# Altium footprint library ActiveWave MasterLib.PcbLib: 41 footprints (part 2 of 3)
Each footprint in its own frame and in the unit in brackets; x right, y up, seen from the top. Pads: shape width x height; smd on the part's side, far side on the other; paste and mask are expansions set on the pad; w line width, h text height; cw(c..) or ccw(c..) is an arc to the next point about the centre after c.
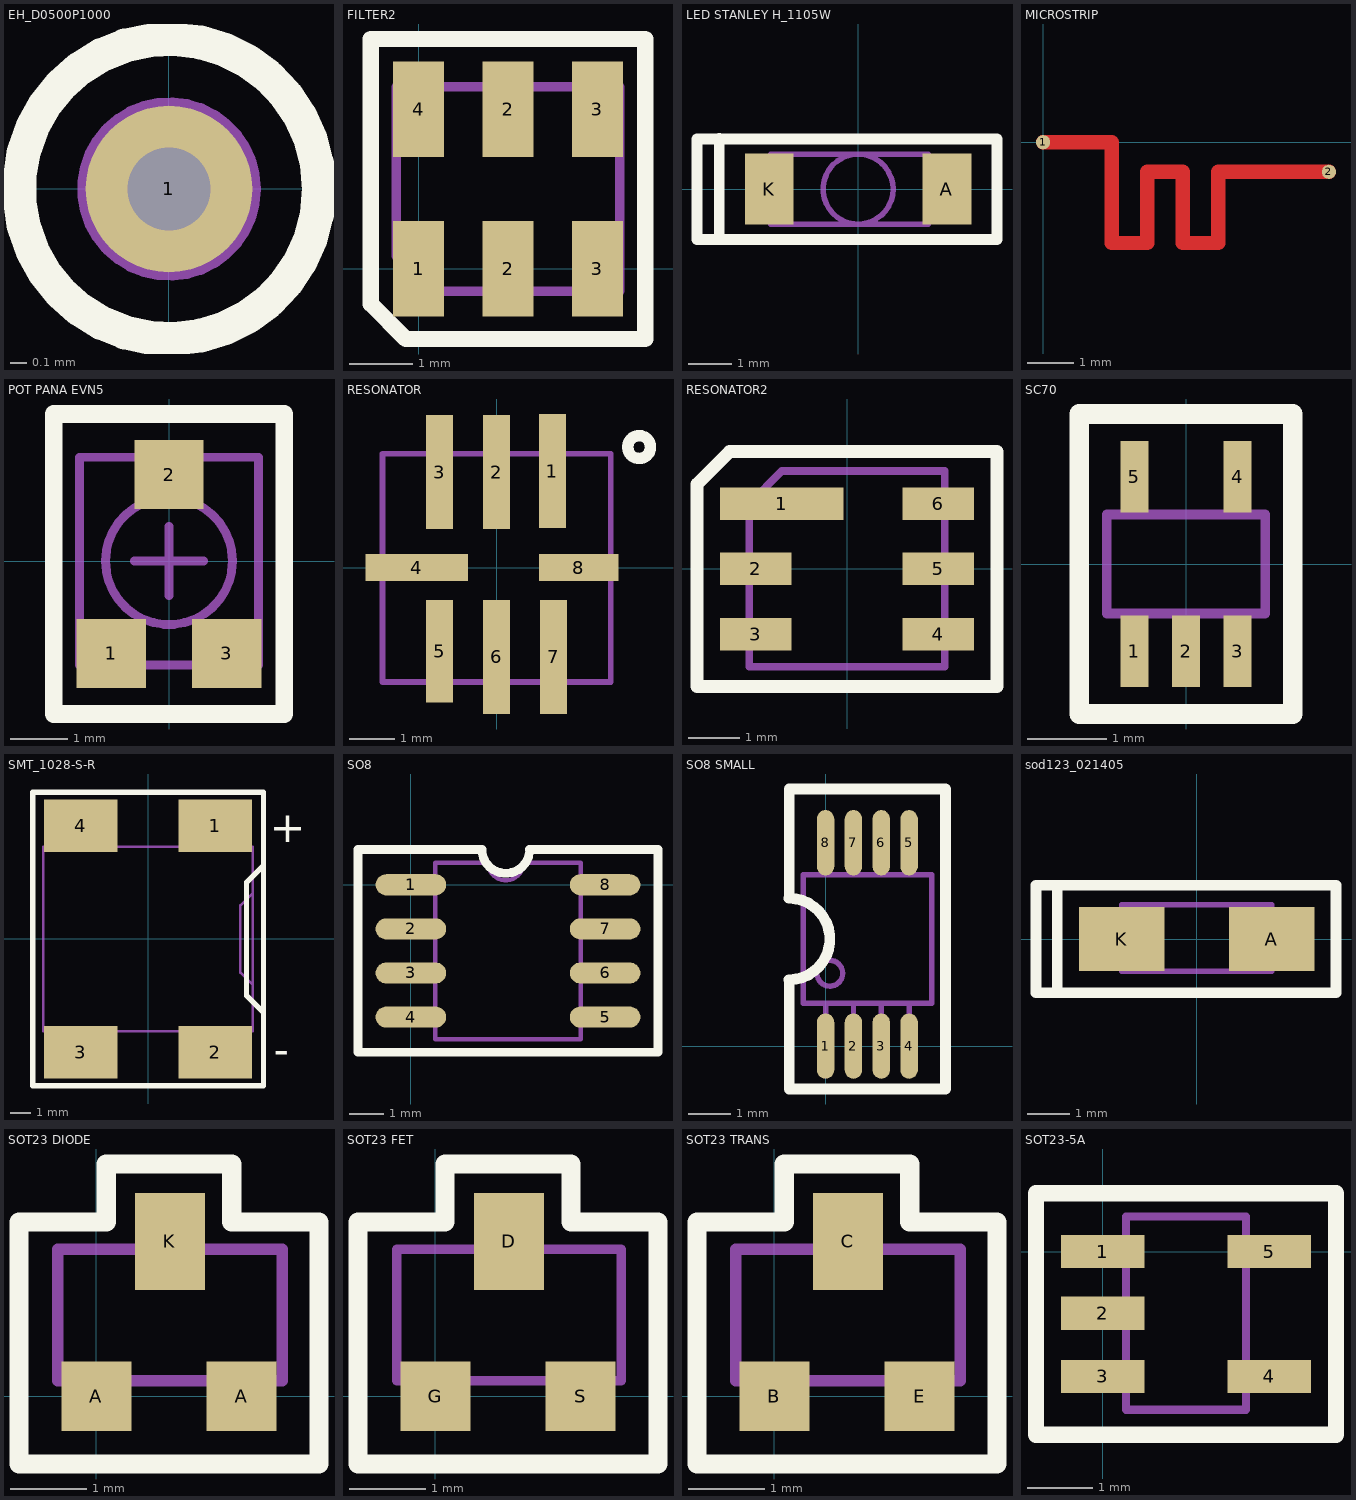
[diagram p1: the footprints below, top view; thin cyan lines are the x and y axes]

## EH_D0500P1000 [mm]
pads (1):
  round 1 hole 0.5: 1(0,0)
Top Overlay:
  circle w0.203: c0,0 r0.9
Mechanical 1:
  circle w0.102: c0,0 r0.5
Mechanical 8:
  text ".Designator" at -0.381,0.889 h0.5

## FILTER2 [mm]
pads (6):
  rect 0.8x1.5 smd: 1(0,0) 2(1.4,0) 2(1.4,2.5) 3(2.8,0) 3(2.8,2.5) 4(0,2.5)
Top Overlay:
  lines w0.254: -0.75,-0.55 -0.75,1.25 -0.75,3.6 3,3.6 3.55,3.6 3.55,1.25 3.55,-1.1 -0.2,-1.1 -0.75,-0.55
Mechanical 1:
  lines w0.152: 1.4,2.85 -0.35,2.85 ; -0.35,2.85 3.15,2.85 3.15,-0.35 0.2,-0.35 -0.35,0.2 -0.35,2.85
Mechanical 8:
  text ".Designator" at -0.254,1.143 h0.5

## LED STANLEY H_1105W [mil]
pads (2):
  rect 44x64 smd: A(80,0) K(-80,0)
Top Overlay:
  lines w9.84: -125,-45 -125,45.55 ; -145,-45.28 -145,45.28 -131.89,45.28 -114.17,45.28 0,45.28 114.17,45.28 125,45.28 125,-45.28 114.17,-45.28 0,-45.28 -114.17,-45.28 -131.89,-45.28 -145,-45.28
Mechanical 1:
  circle w4.92: c0,0 r31.5
  lines w4.92: 0,31.5 62.99,31.5 ; -62.99,-31.5 -78.74,-31.5 -78.74,31.5 -62.99,31.5 ; -62.99,-31.5 -62.99,31.5 ; -62.99,-31.5 62.99,-31.5 62.99,31.5 ; -62.99,31.5 62.99,31.5
Mechanical 8:
  text ".Designator" at -80,45 h19.68

## MICROSTRIP [mil]
pads (2):
  round 12 smd: 1(0,0) 2(241.41,-25)
Top Layer:
  lines w12: 0,0 57.94,0 57.94,-85 87.94,-85 87.94,-25 117.94,-25 117.94,-30 117.94,-85 147.94,-85 147.94,-25 241.19,-25 241.41,-25
Mechanical 8:
  text ".Designator" at 40,-50 h19.68

## POT PANA EVN5 [mm]
pads (3):
  rect 1.2x1.2 smd: 1(-1,-1.6) 2(0,1.5) 3(1,-1.6)
Top Overlay:
  lines w0.305: -2,-2.65 0,-2.65 2,-2.65 2,2.55 0,2.55 -2,2.55 -2,-2.65
Mechanical 1:
  circle w0.152: c0,0 r1.1
  lines w0.152: -0.6,0 0,0 ; 0,-0.6 0,0 ; 0,0.6 0,0 ; 0,1.8 -1.55,1.8 ; 0.6,0 0,0 ; -1.55,1.8 -1.55,-1.8 1.55,-1.8 1.55,1.8 -1.55,1.8
Mechanical 8:
  text ".Designator" at -1.651,-0.127 h0.5

## RESONATOR [mm]
pads (8):
  rect 0.6x2.54 smd: 1(1.245,2.159) 2(0,2.134) 3(-1.27,2.134) 6(0,-1.983) 7(1.27,-1.983)
  rect 2.286x0.6 smd: 4(-1.776,0.008)
  rect 0.6x2.286 smd: 5(-1.27,-1.856)
  rect 1.778x0.6 smd: 8(1.831,0.008)
Top Overlay:
  circle w0.254: c3.175,2.692 r0.254
Mechanical 1:
  lines w0.125: -2.54,-2.54 -2.54,2.54 2.54,2.54 2.54,0 2.54,-2.54 -2.54,-2.54
Mechanical 8:
  text ".Designator" at -1.778,1.651 h0.5

## RESONATOR2 [mil]
pads (6):
  rect 95x25 smd: 1(-50,50)
  rect 55x25 smd: 2(-70,0) 3(-70,-50) 4(70,-50) 5(70,0) 6(70,50)
Top Overlay:
  lines w10: -115,-90 -115,-50 -115,65 -90,90 0,90 115,90 115,50 115,-90 0,-90 -115,-90
Mechanical 1:
  lines w6: -75,-75 -75,50 -50,75 0,75 75,75 75,-75 -75,-75
Mechanical 8:
  text ".Designator" at -70,-10 h19.68

## SC70 [mm]
pads (5):
  rect 0.35x0.9 smd: 1(-0.65,-1.1) 2(0,-1.1) 3(0.65,-1.1) 4(0.65,1.1) 5(-0.65,1.1)
Top Overlay:
  lines w0.25: -1.346,-1.892 -1.346,0 -1.346,1.892 0,1.892 1.346,1.892 1.346,0 1.346,-1.892 0,-1.892 -1.346,-1.892
Mechanical 1:
  lines w0.125: -0.65,-1.1 -0.65,-0.625 ; -0.65,0.625 -0.65,1.1 ; 0,-1.1 0,-0.625 ; 0,0.625 -1,0.625 ; 0.65,-1.1 0.65,-0.625 ; 0.65,0.625 0.65,1.1 ; 1,0 1,-0.625 ; -1,0.625 1,0.625 1,-0.625 ; -1,0.625 -1,-0.625 1,-0.625
Mechanical 8:
  text ".Designator" at -1.778,1.524 h0.5

## SMT_1028-S-R [mm] "TRANSDUCER"
pads (4):
  rect 3.5x2.5 smd: 1(3.2,5.4) 2(3.2,-5.4) 3(-3.2,-5.4) 4(-3.2,5.4)
Top Overlay:
  lines w0.25: 5.5,-3.5 5.5,3.5 ; 5.5,-3.5 5.5,-7 -5.5,-7 -5.5,7 5.5,7 5.5,3.5 ; 5.5,-3.5 4.7,-2.7 4.7,2.7 5.5,3.5
  text "+" at 5.8,4.6 h1.5
  text "-" at 6,-6 h1.5
Mechanical 1:
  lines w0.125: -3.7,-4.4 -3.7,-5.4 -2.7,-5.4 -2.7,-4.4 ; -3.7,4.4 -3.7,5.4 -2.7,5.4 -2.7,4.4 ; 2.7,-4.4 2.7,-5.4 3.7,-5.4 3.7,-4.4 ; 2.7,4.4 2.7,5.4 3.7,5.4 3.7,4.4 ; 5,-2.2 5,2.2 ; 5,-2.2 5,-4.4 -5,-4.4 -5,4.4 5,4.4 5,2.2 ; 5,-2.2 4.4,-1.6 4.4,1.6 5,2.2
  text "+" at 2.6,2.4 h1.5
  text "-" at 2.5,-3.7 h1.5
Mechanical 8:
  text ".Designator" at -1.905,1.143 h0.5

## SO8 [mil]
pads (8):
  oval 80x24 smd: 1(0,0) 2(0,-50) 3(0,-100) 4(0,-150) 5(220,-150) 6(220,-100) 7(220,-50) 8(220,0)
Top Overlay:
  lines w9.84: 80.46,40 -60,40 -60,-190 280,-190 280,40 134.54,40
  lines w10: 80.46,40 ccw(c107.5,40) 134.54,40
Mechanical 1:
  lines w4.92: 27.5,-155 0,-155 0,-145 27.5,-145 ; 27.5,-105 0,-105 0,-95 27.5,-95 ; 27.5,-55 0,-55 0,-45 27.5,-45 ; 27.5,-5 0,-5 0,5 27.5,5 ; 192.5,-155 220,-155 220,-145 192.5,-145 ; 192.5,-105 220,-105 220,-95 192.5,-95 ; 192.5,-55 220,-55 220,-45 192.5,-45 ; 192.5,-5 220,-5 220,5 192.5,5 ; 27.5,-175 192.5,-175 192.5,25 127.5,25 cw(c107.5,25) 87.5,25 27.5,25 27.5,-175
Mechanical 8:
  text ".Designator" at 40,-30 h19.68

## SO8 SMALL [mil]
pads (8):
  oval 16x60 smd: 1(0,0) 2(25.59,0) 3(51.18,0) 4(76.77,0) 5(76.77,186.85) 6(51.18,186.85) 7(25.59,186.85) 8(0,186.85)
Top Overlay:
  lines w9.84: -33.46,61.02 -33.46,-39.37 1.97,-39.37 110.24,-39.37 110.24,153.54 110.24,236.22 74.8,236.22 -33.46,236.22 -33.46,135.83
  lines w10: -33.46,61.02 ccw(c-33.46,98.43) -33.46,135.83
Mechanical 1:
  circle w4.92: c3.94,66.93 r11.81
  lines w4.92: 0,0 0,39.37 ; 0,157.48 0,196.85 ; 25.59,0 25.59,39.37 ; 25.59,157.48 25.59,196.85 ; 51.18,0 51.18,39.37 ; 51.18,157.48 51.18,196.85 ; 76.77,0 76.77,39.37 ; 76.77,157.48 76.77,196.85 ; 97.44,98.43 97.44,157.48 ; 97.44,157.48 97.44,39.37 -20.67,39.37 -20.67,157.48 97.44,157.48
Mechanical 8:
  text ".Designator" at -10,125 h19.68

## sod123_021405 [mil]
pads (2):
  rect 80x60 smd: A(70,0) K(-70,0)
Top Overlay:
  lines w9.84: -130,-50 -130,50 ; -150,-50 -150,50 40,50 130,50 130,-50 40,-50 -150,-50
Mechanical 1:
  lines w4.92: -40,-30 -40,32 ; -70,-30 -70,32 70,32 70,-30 -70,-30
Mechanical 8:
  text ".Designator" at -75,45 h19.68

## SOT23 DIODE [mil]
pads (3):
  rect 36x36 smd: A(0,0) A(75,0)
  rect 36x50 smd: K(38,80)
Top Overlay:
  lines w10: -40,-35 -40,90 5,90 5,120 23,120 70,120 70,90 115,90 115,-35 -40,-35
Mechanical 1:
  lines w6: -10,8 -10,-8 10,-8 10,8 ; 30,76 30,94 46,94 46,76 ; 66,8 66,-8 84,-8 84,8 ; -20,8 -20,76 96,76 96,8 -20,8
Mechanical 8:
  text ".Designator" at -35,30 h19.68

## SOT23 FET [mil]
pads (3):
  rect 36x50 smd: D(38,80)
  rect 36x36 smd: G(0,0) S(75,0)
Top Overlay:
  lines w9.84: -40,-35 115,-35 115,90 70,90 70,120 23,120 5,120 5,90 -40,90 -40,-35
Mechanical 1:
  lines w4.92: -10,8 -10,-8 10,-8 10,8 ; 30,76 30,94 46,94 46,76 ; 66,8 66,-8 84,-8 84,8 ; -20,8 96,8 96,76 -20,76 -20,8
Mechanical 8:
  text ".Designator" at -30,105 h19.68

## SOT23 TRANS [mil]
pads (3):
  rect 36x36 smd: B(0,0) E(75,0)
  rect 36x50 smd: C(38,80)
Top Overlay:
  lines w10: -40,-35 -40,90 5,90 5,120 23,120 70,120 70,90 115,90 115,-35 -40,-35
Mechanical 1:
  lines w6: -10,8 -10,-8 10,-8 10,8 ; 30,76 30,94 46,94 46,76 ; 66,8 66,-8 84,-8 84,8 ; -20,8 -20,76 96,76 96,8 -20,8
Mechanical 8:
  text ".Designator" at -35,30 h19.68

## SOT23-5A [mil]
pads (5):
  rect 50x20 smd: 1(0,0) 2(0,-37) 3(0,-75) 4(100,-75) 5(100,0)
Top Overlay:
  lines w9.84: -40,-110 140,-110 140,35 -40,35 -40,-75 -40,-110
Mechanical 1:
  lines w4.92: 14,-79 -8,-79 -8,-71 12,-71 14,-69 ; 14,-41 -8,-41 -8,-33 14,-33 ; 14,-3 -8,-3 -8,5 14,5 ; 86,-79 108,-79 108,-71 86,-71 ; 86,-3 108,-3 108,5 86,5 ; 14,-95 14,21 86,21 86,-95 14,-95
Mechanical 8:
  text ".Designator" at -25,35 h19.68